# Altium schematic symbol library B4B-XH-A.SchLib: 2 symbols
Pins are listed as number, name and electrical type; pins without a type are passive.

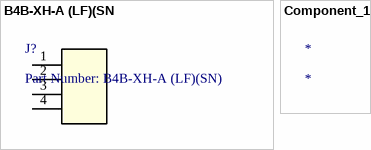
[diagram p0: symbols B4B-XH-A (LF)(SN to Component_1]

## B4B-XH-A (LF)(SN
designator J?, comment Part Number: B4B-XH-A (LF)(SN)
No Description Available; Vendor: JST; Built_By: EMA_Cory; Datasheet: http://www.jst-mfg.com/product/pdf/eng/eXH.pdf; Manufacturer_Part_Number: B4B-XH-A (LF)(SN); Copyright: Copyright (C) 2018 Accelerated Designs. All rights reserved; RefDes: RefDes; Type: DEV; Value: Value
footprint CONN_B4B-XH-A (L
pins: 1, 2, 3, 4

## Component_1
designator *